# EAGLE library part 242B (library displaytech)
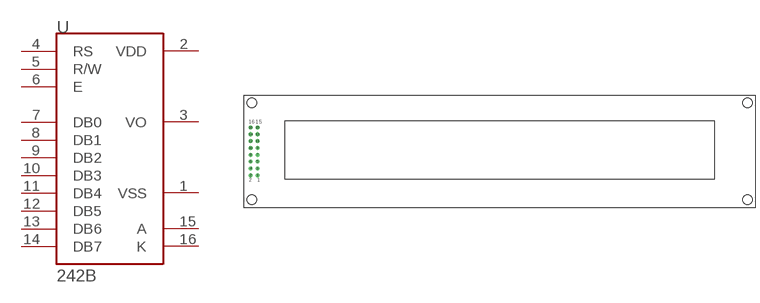
[diagram p13: symbol with the pads of 242B; footprint 242B]

Designator prefix -

## 242B  [242B]
1  VSS  pwr
2  VDD  pwr
3  VO  in
4  RS
5  R/W
6  E
7  DB0
8  DB1
9  DB2
10  DB3
11  DB4
12  DB5
13  DB6
14  DB7
15  A  pwr
16  K  pwr

## Footprint 242B (pad centres in mm)
drill 1.016: 1 0,0; 2 -2.54,0; 3 0,2.54; 4 -2.54,2.54; 5 0,5.08; 6 -2.54,5.08; 7 0,7.62; 8 -2.54,7.62; 9 0,10.16; 10 -2.54,10.16; 11 0,12.7; 12 -2.54,12.7; 13 0,15.24; 14 -2.54,15.24; 15 0,17.78; 16 -2.54,17.78